# EAGLE library part LM334MX/NOPB (library LM334MX_NOPB)
0C to 70C 3-pin adjustable current source 8-SOIC 0 to 70
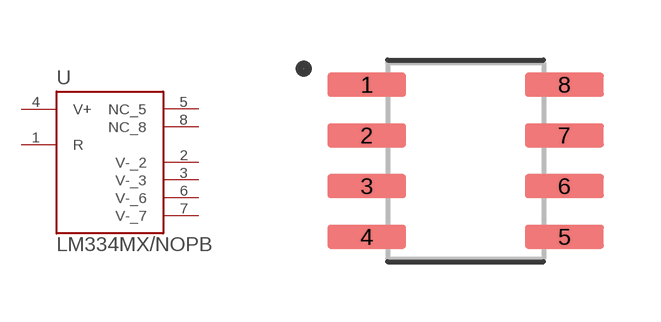
[diagram p0: symbol with the pads of SOIC127P599X175-8N; footprint SOIC127P599X175-8N]

Designator prefix U

## LM334MX/NOPB (Description: 0C to 70C 3-pin adjustable current source 8-SOIC 0 to 70; Digi-Key_Part_Number: LM334MX/NOPBCT-ND; MF: Texas Instruments; MP: LM334MX/NOPB; Package: SOIC-8 Texas Instruments; Purchase-URL: https://pricing.snapeda.com/search/part/LM334MX/NOPB/?ref=eda)  [SOIC127P599X175-8N]
1  R  pas
2  V-_2  pwr
3  V-_3  pwr
4  V+  pwr
5  NC_5  pas
6  V-_6  pwr
7  V-_7  pwr
8  NC_8  pas

## Footprint SOIC127P599X175-8N (pad centres in mm)
smd 1.97 x 0.6: 1 -2.47,1.905; 2 -2.47,0.635; 3 -2.47,-0.635; 4 -2.47,-1.905; 5 2.47,-1.905; 6 2.47,-0.635; 7 2.47,0.635; 8 2.47,1.905